# Altium schematic symbol library BCW71.SchLib: 1 symbol
Pins are listed as number, name and electrical type; pins without a type are passive.

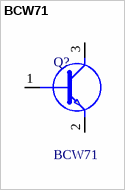
[diagram p0: symbol BCW71]

## BCW71
designator Q?
Bipolar Transistors - BJT SOT-23 NPN GP AMP; Manufacturer_Name: onsemi; Geometry.Height: 1.1mm; Manufacturer_Part_Number: BCW71; Mouser Part Number: 512-BCW71; Mouser Price/Stock: https://www.mouser.co.uk/ProductDetail/onsemi-Fairchild/BCW71?qs=UMEuL5FsraBSW5kwcQ3Wug%3D%3D; Arrow Part Number: BCW71; Arrow Price/Stock: https://www.arrow.com/en/products/bcw71/on-semiconductor?region=europe; Datasheet Link: https://componentsearchengine.com/Datasheets/2/BCW71.pdf
footprint SOT95P230X110-3N
pins: 1 B, 2 E, 3 C